# Altium footprint library 2-1623928-8.PcbLib: 1 footprints
Each footprint in its own frame and in the unit in brackets; x right, y up, seen from the top. Pads: shape width x height; smd on the part's side, far side on the other; paste and mask are expansions set on the pad; w line width, h text height; cw(c..) or ccw(c..) is an arc to the next point about the centre after c.
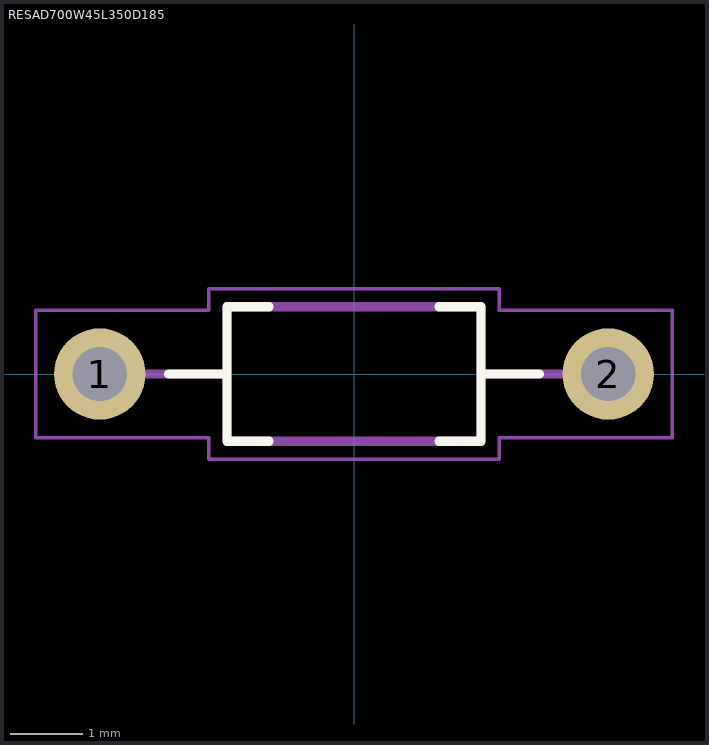
[diagram p0: the footprint, top view; thin cyan lines are the x and y axes]

## RESAD700W45L350D185 [mm]
pads (2):
  round 1.258 hole 0.75: 1(-3.5,0) 2(3.5,0)
Top Overlay:
  lines w0.127: -2.55,0 -1.75,0 ; -1.17,-0.925 -1.75,-0.925 -1.75,0 ; -1.17,0.925 -1.75,0.925 -1.75,0 ; 1.17,-0.925 1.75,-0.925 1.75,0 ; 1.17,0.925 1.75,0.925 1.75,0 ; 2.55,0 1.75,0
Mechanical 13:
  lines w0.127: -2.925,0 -1.75,0 ; 2.925,0 1.75,0 ; -1.75,0 -1.75,0.925 1.75,0.925 1.75,0 ; -1.75,0 -1.75,-0.925 1.75,-0.925 1.75,0
Mechanical 15:
  lines w0.05: -4.38,-0.88 -4.38,0.88 -2,0.88 -2,1.175 2,1.175 2,0.88 4.38,0.88 4.38,-0.88 2,-0.88 2,-1.175 -2,-1.175 -2,-0.88 -4.38,-0.88